# EAGLE library part ITSY-32U4_5V (library Adafruit_Modules)
Adafruit ItsyBitsy 32u4 5V 16mHz (Atmega32u4)
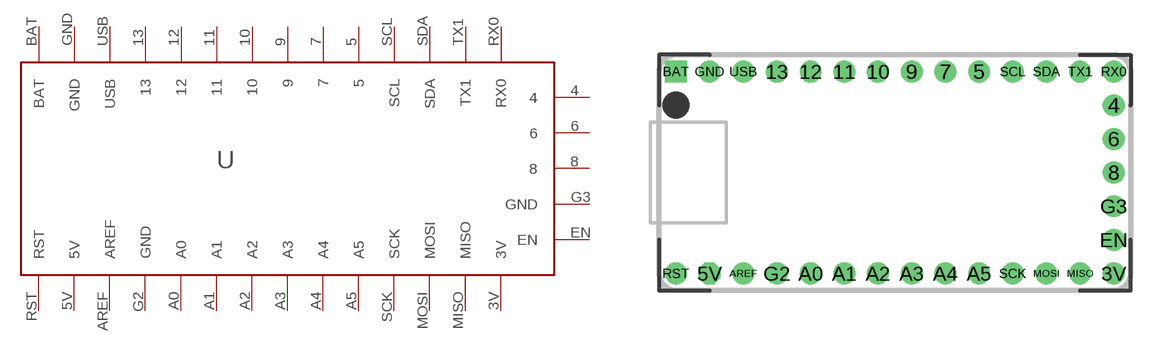
[diagram p1: symbol with the pads of ITSY-32U4_5V; footprint ITSY-32U4_5V]

Designator prefix -

## ITSY-32U4_5V (ADAFRUIT: 3677)  [ITSY-32U4_5V]
3V  3V  out
4  4
5  5
5V  5V  out
6  6
7  7
8  8
9  9
10  10
11  11
12  12
13  13
A0  A0
A1  A1
A2  A2
A3  A3
A4  A4
A5  A5
AREF  AREF  in
BAT  BAT  pwr
EN  EN
G2  GND  pwr
G3  GND  pwr
GND  GND  pwr
MISO  MISO
MOSI  MOSI
RST  RST  pas
RX0  RX0
SCK  SCK
SCL  SCL
SDA  SDA
TX1  TX1
USB  USB  out

## Footprint ITSY-32U4_5V (pad centres in mm)
Adafruit ItsyBitsy 32u4 5V 16mHz
drill 1.1: 3V 10.16,-7.62; 4 10.16,5.08; 5 0,7.62; 6 10.16,2.54; 7 -2.54,7.62; 8 10.16,0; 9 -5.08,7.62; 10 -7.62,7.62; 11 -10.16,7.62; 12 -12.7,7.62; 13 -15.24,7.62; A0 -12.7,-7.62; A1 -10.16,-7.62; A2 -7.62,-7.62; A3 -5.08,-7.62; A4 -2.54,-7.62; A5 0,-7.62; AREF -17.78,-7.62; EN 10.16,-5.08; G2 -15.24,-7.62; G3 10.16,-2.54; GND -20.32,7.62; MISO 7.62,-7.62; MOSI 5.08,-7.62; RST -22.86,-7.62; RX0 10.16,7.62; SCK 2.54,-7.62; SCL 2.54,7.62; SDA 5.08,7.62; TX1 7.62,7.62; USB -17.78,7.62
drill 1.1 octagon: 5V -20.32,-7.62
drill 1.1 square: BAT -22.86,7.62